# Altium schematic symbol library SymbolLibrary.SchLib: 1 symbol
Pins are listed as number, name and electrical type; pins without a type are passive.

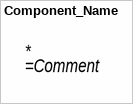
[diagram p0: symbol Component_Name]

## Component_Name
designator *